# Altium schematic symbol library 1725737.SchLib: 1 symbol
Pins are listed as number, name and electrical type; pins without a type are passive.

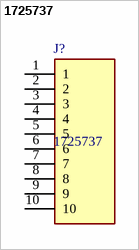
[diagram p0: symbol 1725737]

## 1725737
designator J?
Fixed Terminal Blocks 10P 2.54mm 90DEG; Manufacturer_Name: Phoenix Contact; Geometry.Height: 8.65mm; Mouser Part Number: 651-1725737; Mouser Price/Stock: https://www.mouser.co.uk/ProductDetail/Phoenix-Contact/1725737?qs=W3wJikR1%252BS4TtzjqDk79Bg%3D%3D; Manufacturer_Part_Number: 1725737; Datasheet Link: https://www.phoenixcontact.com/online/portal/us/?uri=pxc-oc-itemdetail:pid=1725737&library=usen&pcck=P-11-01-05&tab=1&selectedCategory=ALL
footprint 1725737
pins: 1, 2, 3, 4, 5, 6, 7, 8, 9, 10